# Altium integrated library passive_components.IntLib: 4 symbols
Pins are listed as number, name and electrical type; pins without a type are passive.

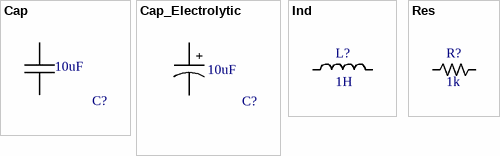
[diagram p0: symbols Cap to Res]

## Cap
designator C?, comment value 10uF  (hidden comment: MLLC Capacitor)
Rating: *
footprint CAPC1005X06N (Chip Capacitor, 2-Leads, Body 1,00x0,50mm, IPC Medium Density)
footprint CAPC1608X09N (Chip Capacitor, 2-Leads, Body 1,60x0,80mm, IPC Medium Density)
footprint CAPC2012X14N (Chip Capacitor, 2-Leads, Body 2,00x1,25mm, IPC Medium Density)
footprint CAPC3216X19N (Chip Capacitor, 2-Leads, Body 3,20x1,60mm, IPC Medium Density)
pins: 1, 2

## Cap_Electrolytic
designator C?, comment value 10uF  (hidden comment: Electrolytic Capacitor)
Rating: *
footprint CAPAE5453X54M (Aluminum Electrolytic Capacitor, Body 5,30x5,30x5,40mm, IPC Low Density)
pins: 1, 2
text: +

## Ind
designator L?, comment value 1H  (hidden comment: Chip Inductor)
footprint Model Name (Footprint not found)
footprint INDC2016X10N (Chip Inductor, 2-Leads, Body 2,00x1,60mm, IPC Medium Density)
pins: 1, 2

## Res
designator R?, comment value 1k  (hidden comment: Chip Resistor)
footprint RESC1005X04N (Chip Resistor, 2-Leads, Body 1,00x0,50mm, IPC Medium Density)
footprint RESC1608X05N (Chip Resistor, 2-Leads, Body 1,58x0,85mm, IPC Medium Density)
footprint RESC2012X05N (Chip Resistor, 2-Leads, Body 2,05x1,25mm, IPC Medium Density)
footprint RESC3216X06N (Chip Resistor, 2-Leads, Body 3,15x1,60mm, IPC Medium Density)
pins: 1, 2